# Altium schematic symbol library PCM1794A.SchLib: 1 symbol
Pins are listed as number, name and electrical type; pins without a type are passive.

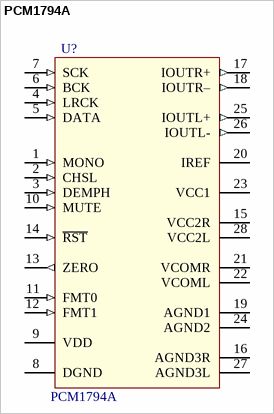
[diagram p0: symbol PCM1794A]

## PCM1794A
designator U?
24-Bit, 192-kHz Sampling, Advanced Segment, Audio Stereo / Digital-to-Analog Converter; value: PCM1794A
footprint SSOP-28 (Footprint not found)
pins: 1 MONO (in), 2 CHSL (in), 3 DEMPH (in), 4 LRCK (in), 5 DATA (in), 6 BCK (in), 7 SCK (in), 8 DGND (power), 9 VDD (power), 10 MUTE (in), 11 FMT0 (in), 12 FMT1 (in), 13 ZERO (out), 14 ~{RST} (in), 15 VCC2R (power), 16 AGND3R (power), 17 IOUTR+ (out), 18 IOUTR– (out), 19 AGND1 (power), 20 IREF (power), 21 VCOMR, 22 VCOML, 23 VCC1 (power), 24 AGND2 (power), 25 IOUTL+ (out), 26 IOUTL- (out), 27 AGND3L (power), 28 VCC2L (power)